# Altium footprint library Microfono.PcbLib: 1 footprints
Each footprint in its own frame and in the unit in brackets; x right, y up, seen from the top. Pads: shape width x height; smd on the part's side, far side on the other; paste and mask are expansions set on the pad; w line width, h text height; cw(c..) or ccw(c..) is an arc to the next point about the centre after c.
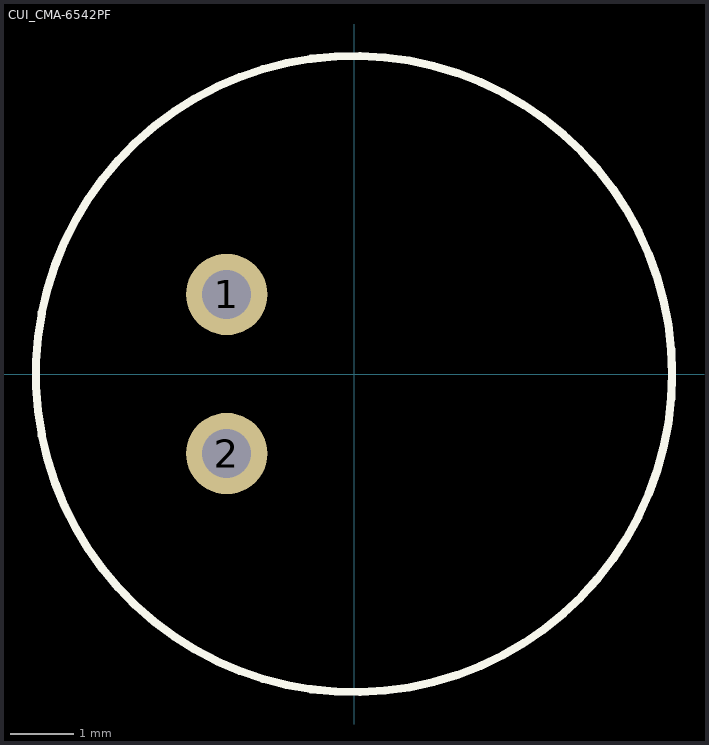
[diagram p0: the footprint, top view; thin cyan lines are the x and y axes]

## CUI_CMA-6542PF [mm]
pads (2):
  round 1.278 hole 0.77: 1(-2,1.25) 2(-2,-1.25)
Top Overlay:
  circle w0.127: c0,0 r5